# Altium footprint library RP73D1J37K4BTDG.PcbLib: 1 footprints
Each footprint in its own frame and in the unit in brackets; x right, y up, seen from the top. Pads: shape width x height; smd on the part's side, far side on the other; paste and mask are expansions set on the pad; w line width, h text height; cw(c..) or ccw(c..) is an arc to the next point about the centre after c.
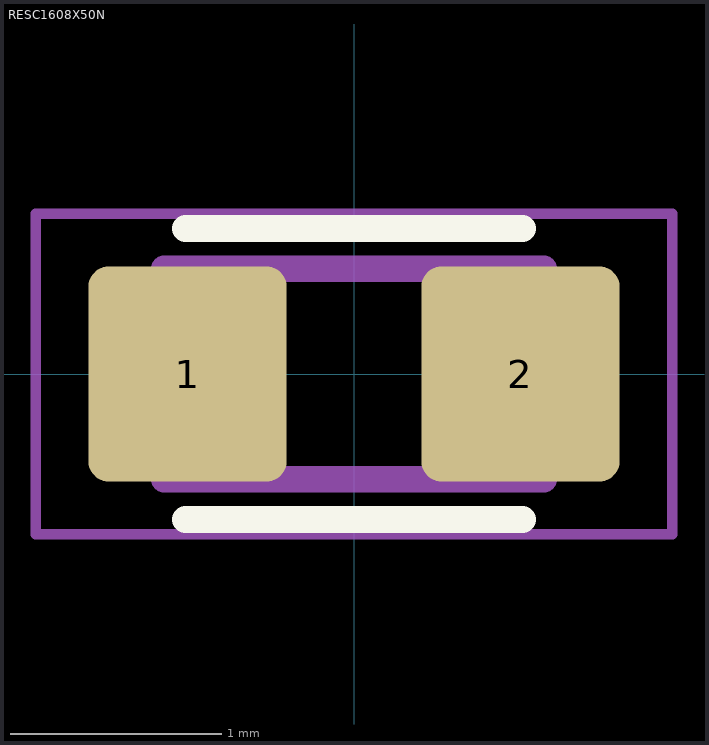
[diagram p0: the footprint, top view; thin cyan lines are the x and y axes]

## RESC1608X50N [mm]
pads (2):
  rrect20% 0.94x1.02 smd: 1(-0.79,0) 2(0.79,0)
Top Overlay:
  lines w0.127: -0.8,-0.69 0.8,-0.69 ; -0.8,0.69 0.8,0.69
Mechanical 13:
  lines w0.127: -0.9,-0.5 0.9,-0.5 0.9,0.5 -0.9,0.5 -0.9,-0.5
Mechanical 15:
  lines w0.05: -1.51,-0.76 1.51,-0.76 1.51,0.76 -1.51,0.76 -1.51,-0.76
3D body "step_temp.STEP": height 0.23, standoff -0.23, extent -0.8,-0.4 0.8,0.4